# Altium integrated library 5-5530843-3.IntLib: 1 symbol
Pins are listed as number, name and electrical type; pins without a type are passive.

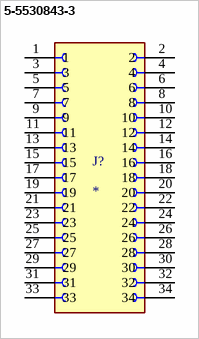
[diagram p0: symbol 5-5530843-3]

## 5-5530843-3
designator J?
MF: {'manufacturer': u'TE Connectivity / AMP'}; MP: 5-5530843-3; Package: None; Price: None; Value: *; Availability: Unavailable
footprint TE_5-5530843-3
pins: 1, 2, 3, 4, 5, 6, 7, 8, 9, 10, 11, 12, 13, 14, 15, 16, 17, 18, 19, 20, 21, 22, 23, 24, 25, 26, 27, 28, 29, 30, 31, 32, 33, 34